# EAGLE library part NUCLEO-SHIELD (library ELL-i-Boards)
Shield template for ST Nucleo boards
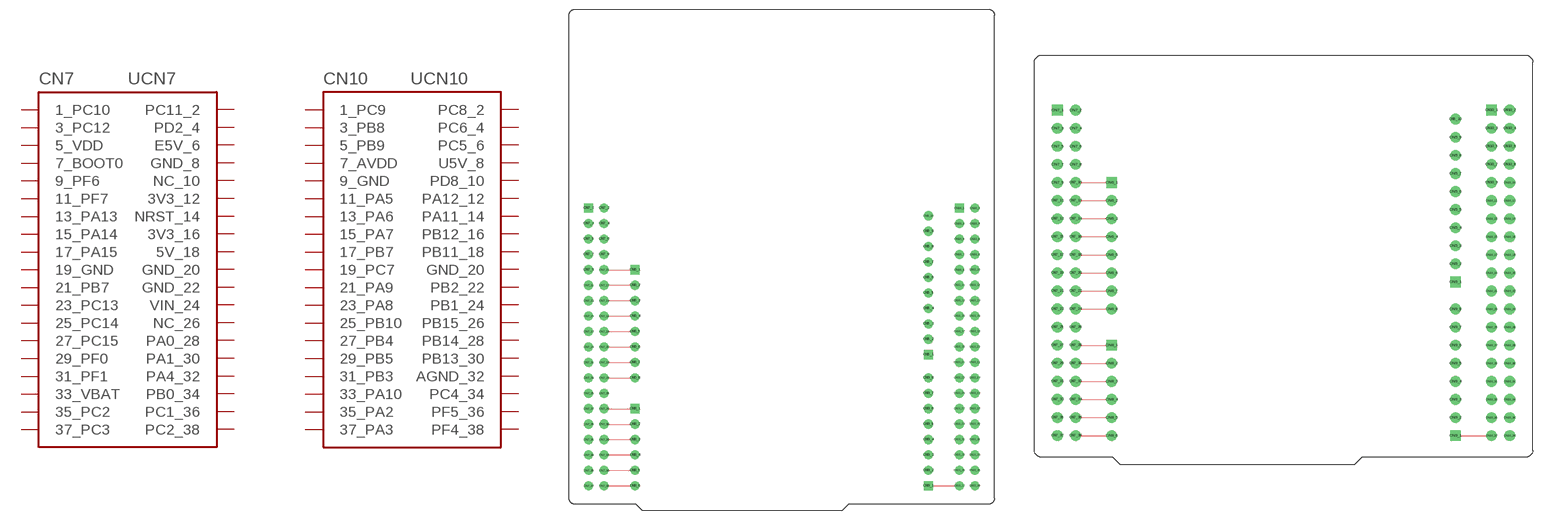
[diagram p4: symbol with the pads of NUCLEO-SHIELD-WITHHOLES-FULLSIZE; footprints NUCLEO-SHIELD-WITHHOLES-FULLSIZE, NUCLEO-SHIELD-WITHHOLES-SHORT]

Designator prefix -; gates CN7=NUCLEO_CN7_ALL_PINS CN10=NUCLEO_CN10_ALL_PINS

## NUCLEO-SHIELD-FULLSIZE  [NUCLEO-SHIELD-WITHHOLES-FULLSIZE]
CN7_1  CN7:1_PC10
CN7_2  CN7:PC11_2
CN7_3  CN7:3_PC12
CN7_4  CN7:PD2_4
CN7_5  CN7:5_VDD
CN7_6  CN7:E5V_6
CN7_7  CN7:7_BOOT0
CN7_8  CN7:GND_8
CN7_9  CN7:9_PF6
CN7_10  CN7:NC_10
CN7_11  CN7:11_PF7
CN7_12  CN7:3V3_12
CN7_13  CN7:13_PA13
CN7_14  CN7:NRST_14
CN7_15  CN7:15_PA14
CN7_16  CN7:3V3_16
CN7_17  CN7:17_PA15
CN7_18  CN7:5V_18
CN7_19  CN7:19_GND
CN7_20  CN7:GND_20
CN7_21  CN7:21_PB7
CN7_22  CN7:GND_22
CN7_23  CN7:23_PC13
CN7_24  CN7:VIN_24
CN7_25  CN7:25_PC14
CN7_26  CN7:NC_26
CN7_27  CN7:27_PC15
CN7_28  CN7:PA0_28
CN7_29  CN7:29_PF0
CN7_30  CN7:PA1_30
CN7_31  CN7:31_PF1
CN7_32  CN7:PA4_32
CN7_33  CN7:33_VBAT
CN7_34  CN7:PB0_34
CN7_35  CN7:35_PC2
CN7_36  CN7:PC1_36
CN7_37  CN7:37_PC3
CN7_38  CN7:PC2_38
CN10_1  CN10:1_PC9
CN10_2  CN10:PC8_2
CN10_3  CN10:3_PB8
CN10_4  CN10:PC6_4
CN10_5  CN10:5_PB9
CN10_6  CN10:PC5_6
CN10_7  CN10:7_AVDD
CN10_8  CN10:U5V_8
CN10_9  CN10:9_GND
CN10_10  CN10:PD8_10
CN10_11  CN10:11_PA5
CN10_12  CN10:PA12_12
CN10_13  CN10:13_PA6
CN10_14  CN10:PA11_14
CN10_15  CN10:15_PA7
CN10_16  CN10:PB12_16
CN10_17  CN10:17_PB7
CN10_18  CN10:PB11_18
CN10_19  CN10:19_PC7
CN10_20  CN10:GND_20
CN10_21  CN10:21_PA9
CN10_22  CN10:PB2_22
CN10_23  CN10:23_PA8
CN10_24  CN10:PB1_24
CN10_25  CN10:25_PB10
CN10_26  CN10:PB15_26
CN10_27  CN10:27_PB4
CN10_28  CN10:PB14_28
CN10_29  CN10:29_PB5
CN10_30  CN10:PB13_30
CN10_31  CN10:31_PB3
CN10_32  CN10:AGND_32
CN10_33  CN10:33_PA10
CN10_34  CN10:PC4_34
CN10_35  CN10:35_PA2
CN10_36  CN10:PF5_36
CN10_37  CN10:37_PA3
CN10_38  CN10:PF4_38

## NUCLEO-SHIELD-NORMAL  [NUCLEO-SHIELD-WITHHOLES-SHORT]
Pads as for NUCLEO-SHIELD-WITHHOLES-FULLSIZE

## NUCLEO-SHIELD-20PIN  [NUCLEO-SHIELD-UNDERSIDE-SHORT-20-PINHEADER]
Pads as for NUCLEO-SHIELD-WITHHOLES-FULLSIZE

## Footprint NUCLEO-SHIELD-WITHHOLES-FULLSIZE (pad centres in mm)
drill 1 square: CN5_1 59.13,25.63; CN6_1 10.87,39.6; CN7_1 3.25,49.76; CN8_1 10.87,16.74; CN9_1 59.13,4.04; CN10_1 64.21,49.76
drill 1: CN5_2 59.13,28.17; CN5_3 59.13,30.71; CN5_4 59.13,33.25; CN5_5 59.13,35.79; CN5_6 59.13,38.33; CN5_7 59.13,40.87; CN5_8 59.13,43.41; CN5_9 59.13,45.95; CN5_10 59.13,48.49; CN6_2 10.87,37.06; CN6_3 10.87,34.52; CN6_4 10.87,31.98; CN6_5 10.87,29.44; CN6_6 10.87,26.9; CN6_7 10.87,24.36; CN6_8 10.87,21.82; CN7_2 5.79,49.76; CN7_3 3.25,47.22; CN7_4 5.79,47.22; CN7_5 3.25,44.68; CN7_6 5.79,44.68; CN7_7 3.25,42.14; CN7_8 5.79,42.14; CN7_9 3.25,39.6; CN7_10 5.79,39.6; CN7_11 3.25,37.06; CN7_12 5.79,37.06; CN7_13 3.25,34.52; CN7_14 5.79,34.52; CN7_15 3.25,31.98; CN7_16 5.79,31.98; CN7_17 3.25,29.44; CN7_18 5.79,29.44; CN7_19 3.25,26.9; CN7_20 5.79,26.9; CN7_21 3.25,24.36; CN7_22 5.79,24.36; CN7_23 3.25,21.82; CN7_24 5.79,21.82; CN7_25 3.25,19.28; CN7_26 5.79,19.28; CN7_27 3.25,16.74; CN7_28 5.79,16.74; CN7_29 3.25,14.2; CN7_30 5.79,14.2; CN7_31 3.25,11.66; CN7_32 5.79,11.66; CN7_33 3.25,9.12; CN7_34 5.79,9.12; CN7_35 3.25,6.58; CN7_36 5.79,6.58; CN7_37 3.25,4.04; CN7_38 5.79,4.04; CN8_2 10.87,14.2; CN8_3 10.87,11.66; CN8_4 10.87,9.12; CN8_5 10.87,6.58; CN8_6 10.87,4.04; CN9_2 59.13,6.58; CN9_3 59.13,9.12; CN9_4 59.13,11.66; CN9_5 59.13,14.2; CN9_6 59.13,16.74; CN9_7 59.13,19.28; CN9_8 59.13,21.82; CN10_2 66.75,49.76; CN10_3 64.21,47.22; CN10_4 66.75,47.22; CN10_5 64.21,44.68; CN10_6 66.75,44.68; CN10_7 64.21,42.14; CN10_8 66.75,42.14; CN10_9 64.21,39.6; CN10_10 66.75,39.6; CN10_11 64.21,37.06; CN10_12 66.75,37.06; CN10_13 64.21,34.52; CN10_14 66.75,34.52; CN10_15 64.21,31.98; CN10_16 66.75,31.98; CN10_17 64.21,29.44; CN10_18 66.75,29.44; CN10_19 64.21,26.9; CN10_20 66.75,26.9; CN10_21 64.21,24.36; CN10_22 66.75,24.36; CN10_23 64.21,21.82; CN10_24 66.75,21.82; CN10_25 64.21,19.28; CN10_26 66.75,19.28; CN10_27 64.21,16.74; CN10_28 66.75,16.74; CN10_29 64.21,14.2; CN10_30 66.75,14.2; CN10_31 64.21,11.66; CN10_32 66.75,11.66; CN10_33 64.21,9.12; CN10_34 66.75,9.12; CN10_35 64.21,6.58; CN10_36 66.75,6.58; CN10_37 64.21,4.04; CN10_38 66.75,4.04

## Footprint NUCLEO-SHIELD-WITHHOLES-SHORT (pad centres in mm)
drill 1 square: CN5_1 59.13,25.63; CN6_1 10.87,39.6; CN7_1 3.25,49.76; CN8_1 10.87,16.74; CN9_1 59.13,4.04; CN10_1 64.21,49.76
drill 1: CN5_2 59.13,28.17; CN5_3 59.13,30.71; CN5_4 59.13,33.25; CN5_5 59.13,35.79; CN5_6 59.13,38.33; CN5_7 59.13,40.87; CN5_8 59.13,43.41; CN5_9 59.13,45.95; CN5_10 59.13,48.49; CN6_2 10.87,37.06; CN6_3 10.87,34.52; CN6_4 10.87,31.98; CN6_5 10.87,29.44; CN6_6 10.87,26.9; CN6_7 10.87,24.36; CN6_8 10.87,21.82; CN7_2 5.79,49.76; CN7_3 3.25,47.22; CN7_4 5.79,47.22; CN7_5 3.25,44.68; CN7_6 5.79,44.68; CN7_7 3.25,42.14; CN7_8 5.79,42.14; CN7_9 3.25,39.6; CN7_10 5.79,39.6; CN7_11 3.25,37.06; CN7_12 5.79,37.06; CN7_13 3.25,34.52; CN7_14 5.79,34.52; CN7_15 3.25,31.98; CN7_16 5.79,31.98; CN7_17 3.25,29.44; CN7_18 5.79,29.44; CN7_19 3.25,26.9; CN7_20 5.79,26.9; CN7_21 3.25,24.36; CN7_22 5.79,24.36; CN7_23 3.25,21.82; CN7_24 5.79,21.82; CN7_25 3.25,19.28; CN7_26 5.79,19.28; CN7_27 3.25,16.74; CN7_28 5.79,16.74; CN7_29 3.25,14.2; CN7_30 5.79,14.2; CN7_31 3.25,11.66; CN7_32 5.79,11.66; CN7_33 3.25,9.12; CN7_34 5.79,9.12; CN7_35 3.25,6.58; CN7_36 5.79,6.58; CN7_37 3.25,4.04; CN7_38 5.79,4.04; CN8_2 10.87,14.2; CN8_3 10.87,11.66; CN8_4 10.87,9.12; CN8_5 10.87,6.58; CN8_6 10.87,4.04; CN9_2 59.13,6.58; CN9_3 59.13,9.12; CN9_4 59.13,11.66; CN9_5 59.13,14.2; CN9_6 59.13,16.74; CN9_7 59.13,19.28; CN9_8 59.13,21.82; CN10_2 66.75,49.76; CN10_3 64.21,47.22; CN10_4 66.75,47.22; CN10_5 64.21,44.68; CN10_6 66.75,44.68; CN10_7 64.21,42.14; CN10_8 66.75,42.14; CN10_9 64.21,39.6; CN10_10 66.75,39.6; CN10_11 64.21,37.06; CN10_12 66.75,37.06; CN10_13 64.21,34.52; CN10_14 66.75,34.52; CN10_15 64.21,31.98; CN10_16 66.75,31.98; CN10_17 64.21,29.44; CN10_18 66.75,29.44; CN10_19 64.21,26.9; CN10_20 66.75,26.9; CN10_21 64.21,24.36; CN10_22 66.75,24.36; CN10_23 64.21,21.82; CN10_24 66.75,21.82; CN10_25 64.21,19.28; CN10_26 66.75,19.28; CN10_27 64.21,16.74; CN10_28 66.75,16.74; CN10_29 64.21,14.2; CN10_30 66.75,14.2; CN10_31 64.21,11.66; CN10_32 66.75,11.66; CN10_33 64.21,9.12; CN10_34 66.75,9.12; CN10_35 64.21,6.58; CN10_36 66.75,6.58; CN10_37 64.21,4.04; CN10_38 66.75,4.04

## Footprint NUCLEO-SHIELD-UNDERSIDE-SHORT-20-PINHEADER (pad centres in mm)
Nucleo shield template with 2*20 pin headers This version of shield has no Arduino headers and it has 2*20 pin headers because they're easier to source than Morpho's 2*19 pin headers.
drill 1: CN7_1 -31.55,23.02; CN7_2 -29.01,23.02; CN7_3 -31.55,20.48; CN7_4 -29.01,20.48; CN7_5 -31.55,17.94; CN7_6 -29.01,17.94; CN7_7 -31.55,15.4; CN7_8 -29.01,15.4; CN7_9 -31.55,12.86; CN7_10 -29.01,12.86; CN7_11 -31.55,10.32; CN7_12 -29.01,10.32; CN7_13 -31.55,7.78; CN7_14 -29.01,7.78; CN7_15 -31.55,5.24; CN7_16 -29.01,5.24; CN7_17 -31.55,2.7; CN7_18 -29.01,2.7; CN7_19 -31.55,0.16; CN7_20 -29.01,0.16; CN7_21 -31.55,-2.38; CN7_22 -29.01,-2.38; CN7_23 -31.55,-4.92; CN7_24 -29.01,-4.92; CN7_25 -31.55,-7.46; CN7_26 -29.01,-7.46; CN7_27 -31.55,-10; CN7_28 -29.01,-10; CN7_29 -31.55,-12.54; CN7_30 -29.01,-12.54; CN7_31 -31.55,-15.08; CN7_32 -29.01,-15.08; CN7_33 -31.55,-17.62; CN7_34 -29.01,-17.62; CN7_35 -31.55,-20.16; CN7_36 -29.01,-20.16; CN7_37 -31.55,-22.7; CN7_38 -29.01,-22.7; CN7_40 -29.01,25.56; CN10_1 29.41,23.02; CN10_2 31.95,23.02; CN10_3 29.41,20.48; CN10_4 31.95,20.48; CN10_5 29.41,17.94; CN10_6 31.95,17.94; CN10_7 29.41,15.4; CN10_8 31.95,15.4; CN10_9 29.41,12.86; CN10_10 31.95,12.86; CN10_11 29.41,10.32; CN10_12 31.95,10.32; CN10_13 29.41,7.78; CN10_14 31.95,7.78; CN10_15 29.41,5.24; CN10_16 31.95,5.24; CN10_17 29.41,2.7; CN10_18 31.95,2.7; CN10_19 29.41,0.16; CN10_20 31.95,0.16; CN10_21 29.41,-2.38; CN10_22 31.95,-2.38; CN10_23 29.41,-4.92; CN10_24 31.95,-4.92; CN10_25 29.41,-7.46; CN10_26 31.95,-7.46; CN10_27 29.41,-10; CN10_28 31.95,-10; CN10_29 29.41,-12.54; CN10_30 31.95,-12.54; CN10_31 29.41,-15.08; CN10_32 31.95,-15.08; CN10_33 29.41,-17.62; CN10_34 31.95,-17.62; CN10_35 29.41,-20.16; CN10_36 31.95,-20.16; CN10_37 29.41,-22.7; CN10_38 31.95,-22.7; CN10_39 31.95,25.56
drill 1 square: CN7_39 -31.55,25.56; CN10_40 29.41,25.56